# EAGLE library part ADAFRUIT_HUZZAH (library icmi-custom-parts)
Adafruit HUZZAH ESP8266 breakout This is the device for the ESP8266 breakout board from Adafruit, called the Huzzah. Refer to https://learn.adafruit.com/adafruit-huzzah-esp8266-breakout for more information.
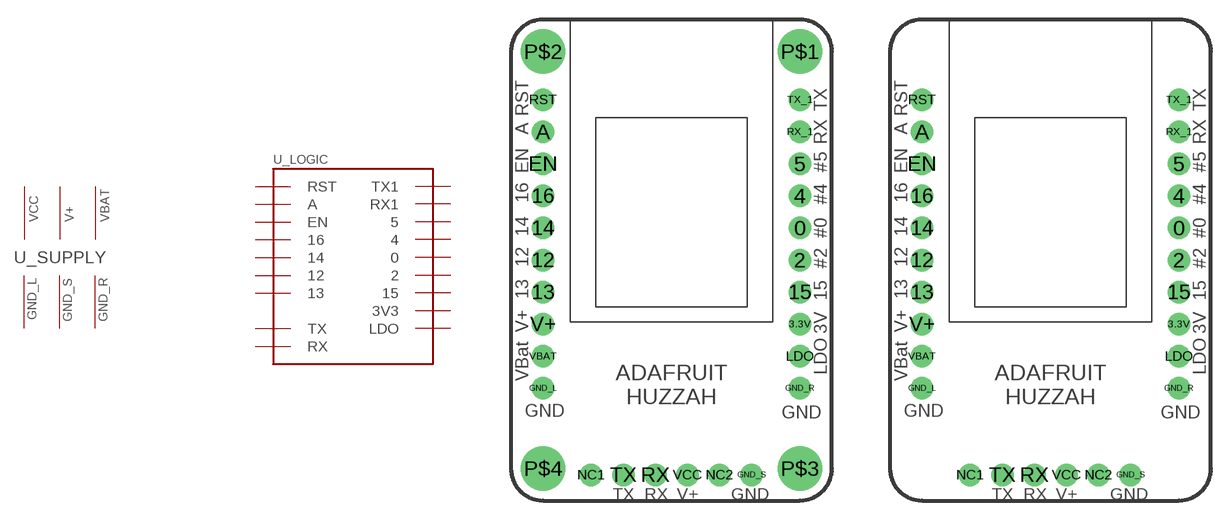
[diagram p3: symbol with the pads of ADAFRUIT_HUZZAH; footprints ADAFRUIT_HUZZAH, ADAFRUIT_HUZZAH_NO_MOUNTS]

Designator prefix -; gates _LOGIC=ADAFRUIT_HUZZAH _SUPPLY=3PWR_3GND

## ADAFRUIT_HUZZAH-THT  [ADAFRUIT_HUZZAH]
0  _LOGIC:0
2  _LOGIC:2
3.3V  _LOGIC:3V3  pwr
4  _LOGIC:4
5  _LOGIC:5
12  _LOGIC:12
13  _LOGIC:13
14  _LOGIC:14
15  _LOGIC:15
16  _LOGIC:16
A  _LOGIC:A
EN  _LOGIC:EN  in
GND_L  _SUPPLY:GND_L  pwr
GND_R  _SUPPLY:GND_R  pwr
GND_S  _SUPPLY:GND_S  pwr
LDO  _LOGIC:LDO
RST  _LOGIC:RST  in
RX  _LOGIC:RX  in
RX_1  _LOGIC:RX1  in
TX  _LOGIC:TX  out
TX_1  _LOGIC:TX1  out
V+  _SUPPLY:V+  pwr
VBAT  _SUPPLY:VBAT  pwr
VCC  _SUPPLY:VCC  pwr

## ADAFRUIT_HUZZAH-THT-NM  [ADAFRUIT_HUZZAH_NO_MOUNTS]
Pads as for ADAFRUIT_HUZZAH

## Footprint ADAFRUIT_HUZZAH (pad centres in mm)
Adafruit HUZZAH ESP8266 Basic Breakout Board Package for the basic ESP8266 breakout board HUZZAH from Adafruit. Engineered from the original schematics.
drill 1 pad 1.778: 0 22.86,21.59; 2 22.86,19.05; 3.3V 22.86,13.97; 4 22.86,24.13; 5 22.86,26.67; 12 2.54,19.05; 13 2.54,16.51; 14 2.54,21.59; 15 22.86,16.51; 16 2.54,24.13; A 2.54,29.21; EN 2.54,26.67; GND_L 2.54,8.89; GND_R 22.86,8.89; GND_S 19.05,2.032; LDO 22.86,11.43; NC1 6.35,2.032; NC2 16.51,2.032; RST 2.54,31.75; RX 11.43,2.032; RX_1 22.86,29.21; TX 8.89,2.032; TX_1 22.86,31.75; V+ 2.54,13.97; VBAT 2.54,11.43; VCC 13.97,2.032
drill 2.5 pad 3.2: P$1 22.86,35.56; P$2 2.54,35.56; P$3 22.86,2.54; P$4 2.54,2.54

## Footprint ADAFRUIT_HUZZAH_NO_MOUNTS (pad centres in mm)
Adafruit HUZZAH ESP8266 Basic Breakout Board (w/o mounts) Package for the basic ESP8266 breakout board HUZZAH from Adafruit. Engineered from the original schematics. This package does not feature the mounting posts.
drill 1 pad 1.778: 0 22.86,21.59; 2 22.86,19.05; 3.3V 22.86,13.97; 4 22.86,24.13; 5 22.86,26.67; 12 2.54,19.05; 13 2.54,16.51; 14 2.54,21.59; 15 22.86,16.51; 16 2.54,24.13; A 2.54,29.21; EN 2.54,26.67; GND_L 2.54,8.89; GND_R 22.86,8.89; GND_S 19.05,2.032; LDO 22.86,11.43; NC1 6.35,2.032; NC2 16.51,2.032; RST 2.54,31.75; RX 11.43,2.032; RX_1 22.86,29.21; TX 8.89,2.032; TX_1 22.86,31.75; V+ 2.54,13.97; VBAT 2.54,11.43; VCC 13.97,2.032